# EAGLE library part MICROSD-4BIT (library greg-Connector)
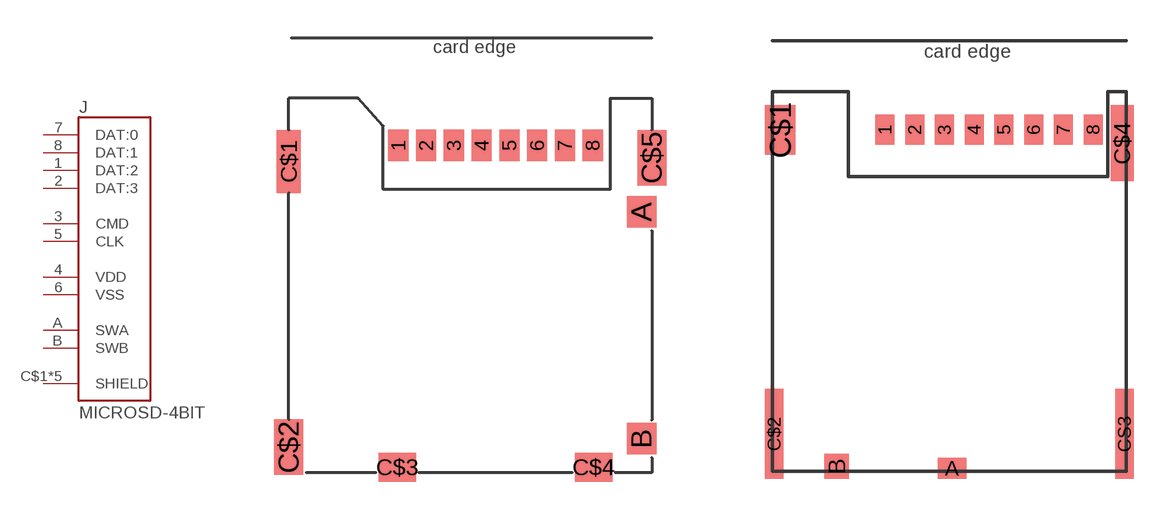
[diagram p2: symbol with the pads of MSD-5031821853; footprints MSD-5031821853, MSD-5033981892]

Designator prefix J

## MICROSD-4BIT5031821853  [MSD-5031821853]
1  DAT:2
2  DAT:3
3  CMD
4  VDD
5  CLK
6  VSS
7  DAT:0
8  DAT:1
A  SWA
B  SWB
C$1  SHIELD
C$2  SHIELD
C$3  SHIELD
C$4  SHIELD
C$5  SHIELD

## MICROSD-4BIT5033981892  [MSD-5033981892]
1  DAT:2
2  DAT:3
3  CMD
4  VDD
5  CLK
6  VSS
7  DAT:0
8  DAT:1
A  SWA
B  SWB
C$1  SHIELD
C$2  SHIELD
C$4  SHIELD
CS3  SHIELD

## Footprint MSD-5031821853 (pad centres in mm)
smd 0.8 x 1.24: 1 -2.9,5.73; 2 -1.8,5.73; 3 -0.7,5.73; 4 0.4,5.73; 5 1.5,5.73; 6 2.6,5.73; 7 3.7,5.73; 8 4.8,5.73
smd 1.16 x 1.25: A 6.74,3.1; B 6.74,-5.9
smd 0.95 x 2.5: C$1 -7.245,5.1
smd 1.15 x 2.2: C$2 -7.245,-6.23; C$5 7.145,5.25
smd 1.5 x 1.15: C$3 -2.94,-7.025; C$4 4.84,-7.025

## Footprint MSD-5033981892 (pad centres in mm)
smd 0.7 x 1.1: 1 -2.9,5.73; 2 -1.8,5.73; 3 -0.7,5.73; 4 0.4,5.73; 5 1.5,5.73; 6 2.6,5.73; 7 3.7,5.73; 8 4.8,5.73
smd 1.05 x 0.78: A -0.425,-6.81
smd 0.9 x 0.93: B -4.69,-6.735
smd 1.14 x 1.83: C$1 -6.78,5.715
smd 0.7 x 3.33: C$2 -7,-5.535; CS3 5.96,-5.535
smd 0.86 x 2.8: C$4 5.88,5.23